# EAGLE library part 502382-0670 (library molex)
CONN RCPT VERT 6POS 1.25MM PCB tested: NO
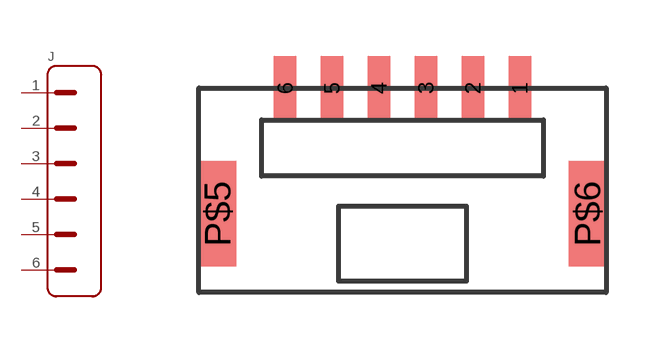
[diagram p3: symbol with the pads of 502382-0670; footprint 502382-0670]

Designator prefix J

## 502382-0670  [502382-0670]
1  1
2  2
3  3
4  4
5  5
6  6

## Footprint 502382-0670 (pad centres in mm)
smd 0.6 x 1.7: 1 3.125,3.35; 2 1.875,3.35; 3 0.625,3.35; 4 -0.625,3.35; 5 -1.875,3.35; 6 -3.125,3.35
smd 1 x 2.8: P$5 -4.925,0; P$6 4.925,0